# Altium footprint library C-DNP.PcbLib: 6 footprints
Each footprint in its own frame and in the unit in brackets; x right, y up, seen from the top. Pads: shape width x height; smd on the part's side, far side on the other; paste and mask are expansions set on the pad; w line width, h text height; cw(c..) or ccw(c..) is an arc to the next point about the centre after c.
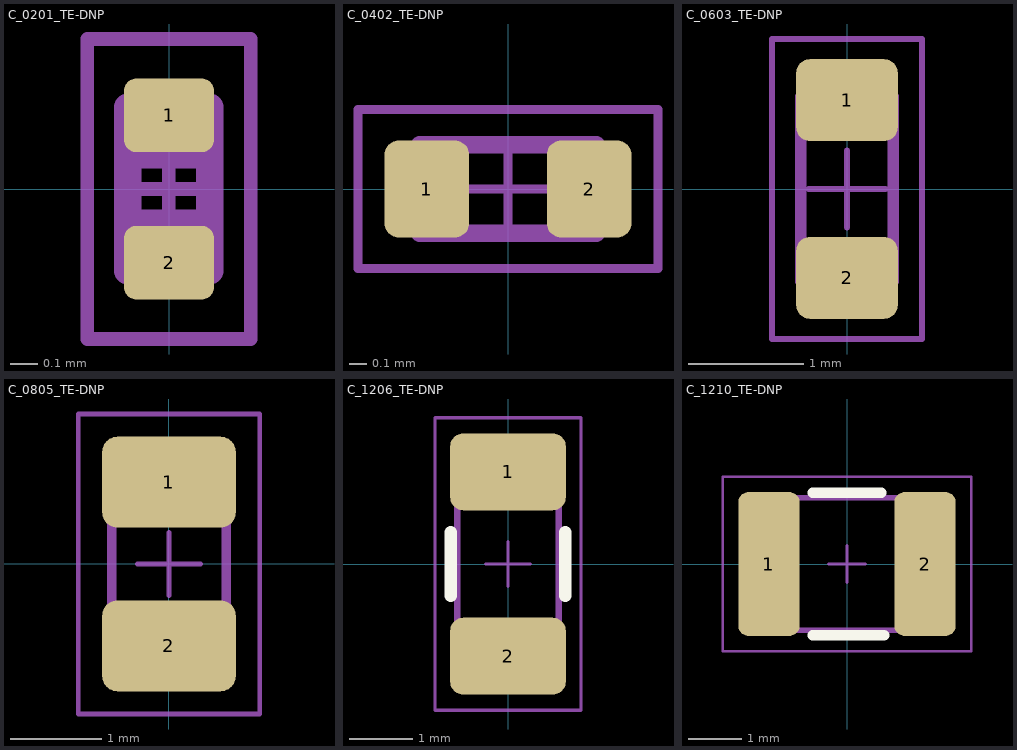
[diagram p0: the footprints below, top view; thin cyan lines are the x and y axes]

## C_0201_TE-DNP [mm]
height 0.33
pads (2):
  rrect33% 0.33x0.27 smd: 1(0,0.27) 2(0,-0.27)
Top Assembly:
  lines w0.1: -0.151,-0.125 0.149,-0.125 ; -0.151,0.125 0.149,0.125 ; -0.151,-0.3 0.149,-0.3 0.149,0.3 -0.151,0.3 -0.151,-0.3
Top Courtyard:
  lines w0.05: -0.3,-0.55 0.3,-0.55 0.3,0.55 -0.3,0.55 -0.3,-0.55
Top Designator:
  text ".Designator" at 0.3,0.45 h0.7
Top Component Center:
  lines w0.05: -0.161,0 0.159,0 ; -0.001,-0.16 -0.001,0.16

## C_0402_TE-DNP [mm] "Vishay VJ0402 1 x 0.5mm (+/- 0.05), 0.25mm +0.05/-0.1mm Kontakte"
height 0.55
pads (2):
  rrect33% 0.48x0.55 smd: 1(-0.46,0) 2(0.46,0)
Top Assembly:
  lines w0.1: -0.3,-0.25 -0.3,0.25 ; 0.3,-0.25 0.3,0.25 ; -0.5,-0.25 0.5,-0.25 0.5,0.25 -0.5,0.25 -0.5,-0.25
Top Courtyard:
  lines w0.05: -0.85,-0.45 0.85,-0.45 0.85,0.45 -0.85,0.45 -0.85,-0.45
Top Designator:
  text ".Designator" at 0.9,-0.3 h0.7
Top Component Center:
  lines w0.05: -0.225,0 0.225,0 ; 0,-0.225 0,0.225

## C_0603_TE-DNP [mm] "Vishay VJ0603 1.6 x 0.8 (+0.15/-0.1) 0.4 +/- 0,15mm Kontakte"
height 0.9
pads (2):
  rrect33% 0.88x0.71 smd: 1(0,0.77) 2(0,-0.77)
Top Assembly:
  lines w0.1: -0.4,-0.5 0.4,-0.5 ; -0.4,0.5 0.4,0.5 ; -0.4,-0.8 0.4,-0.8 0.4,0.8 -0.4,0.8 -0.4,-0.8
Top Courtyard:
  lines w0.05: -0.65,-1.3 0.65,-1.3 0.65,1.3 -0.65,1.3 -0.65,-1.3
Top Designator:
  text ".Designator" at 0.35,0.95 h0.7
Top Component Center:
  lines w0.05: -0.332,0 0.333,0 ; 0,-0.333 0,0.333

## C_0805_TE-DNP [mm] "Capacitor, Chip; 2.00 mm L X 1.25 mm W X 1.45 mm H body"
height 1.35
pads (2):
  rrect33% 1.47x1 smd: 1(0,0.9) 2(0,-0.9)
Top Assembly:
  lines w0.1: -0.625,-0.6 0.63,-0.6 ; -0.625,0.6 0.625,0.6 ; -0.63,-1 0.63,-1 0.63,1 -0.63,1 -0.63,-1
Top Courtyard:
  lines w0.05: -1,-1.65 1,-1.65 1,1.65 -1,1.65 -1,-1.65
Top Designator:
  text ".Designator" at 0.6,1.5 h0.7
Top Component Center:
  lines w0.05: -0.35,0 0.35,0 ; 0,-0.35 0,0.35

## C_1206_TE-DNP [mm]
height 1.8
pads (2):
  rrect33% 1.82x1.21 smd: 1(0,1.45) 2(0,-1.45)
Top Overlay:
  lines w0.2: -0.9,-0.5 -0.9,0.5 ; 0.9,-0.5 0.9,0.5
Top Assembly:
  lines w0.1: -0.8,-1.1 0.8,-1.1 ; -0.8,1.1 0.8,1.1 ; -0.8,-1.6 0.8,-1.6 0.8,1.6 -0.8,1.6 -0.8,-1.6
Top Courtyard:
  lines w0.05: -1.15,-2.3 1.15,-2.3 1.15,2.3 -1.15,2.3 -1.15,-2.3
Top Designator:
  text ".Designator" at 0.35,-0.95 h0.7
Top Component Center:
  lines w0.05: -0.35,0 0.35,0 ; 0,-0.35 0,0.35

## C_1210_TE-DNP [mm]
height 2.5
pads (2):
  rrect33% 1.16x2.72 smd: 1(-1.475,0) 2(1.475,0)
Top Overlay:
  lines w0.2: -0.65,-1.35 0.7,-1.35 ; -0.65,1.35 0.65,1.35
Top Assembly:
  lines w0.1: -1,-1.25 -1,1.25 ; 1,-1.26 1,1.24 ; -1.6,-1.25 -1.6,1.25 1.6,1.25 1.6,-1.25 -1.6,-1.25
Top Courtyard:
  lines w0.05: -2.35,-1.65 2.35,-1.65 2.35,1.65 -2.35,1.65 -2.35,-1.65
Top Designator:
  text ".Designator" at -1.175,-0.425 h0.7
Top Component Center:
  lines w0.05: -0.35,0 0.35,0 ; 0,-0.35 0,0.35